# EAGLE library part BMI160 (library mylib)
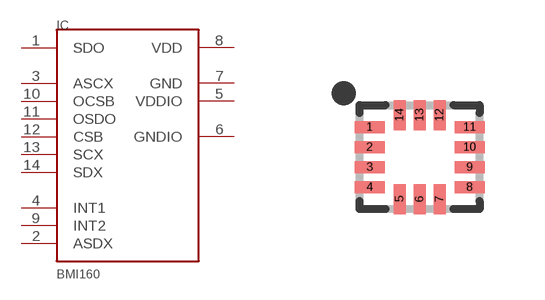
[diagram p120: symbol with the pads of BMI160; footprint BMI160]

Designator prefix IC

## BMI160  [BMI160]
1  SDO
2  ASDX
3  ASCX
4  INT1
5  VDDIO  pwr
6  GNDIO  pas
7  GND  pas
8  VDD  pwr
9  INT2
10  OCSB
11  OSDO
12  CSB
13  SCX
14  SDX

## Footprint BMI160 (pad centres in mm)
smd 0.75 x 0.3: 1 -1.25,0.75; 2 -1.25,0.25; 3 -1.25,-0.25; 4 -1.25,-0.75; 8 1.25,-0.75; 9 1.25,-0.25; 10 1.25,0.25; 11 1.25,0.75
smd 0.3 x 0.75: 5 -0.5,-1.05; 6 0,-1.05; 7 0.5,-1.05; 12 0.5,1.05; 13 0,1.05; 14 -0.5,1.05